# EAGLE library part HEADER1X6 (library MyLibrary)
6-pin Header (1*6) 0.5mm Pitch Connectors For FPC/FFC
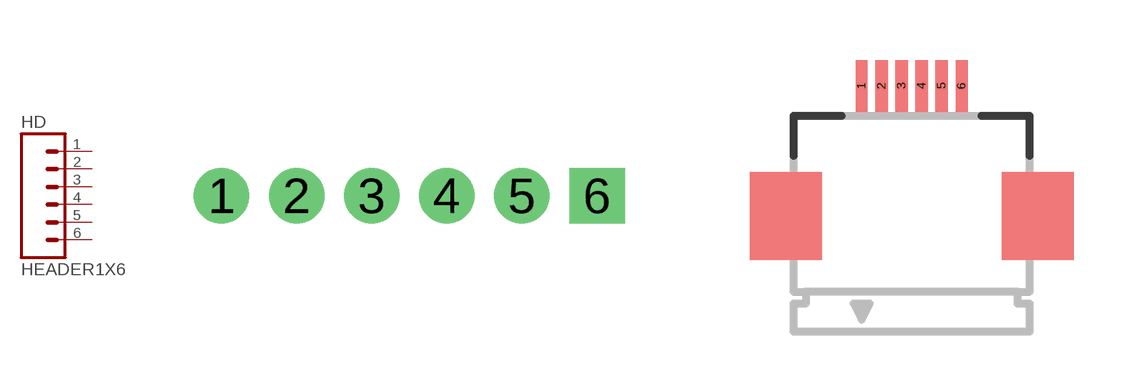
[diagram p5: symbol with the pads of DIP1X6; footprints DIP1X6, FPC0.5-6]

Designator prefix HD

## HEADER1X6  [DIP1X6]
1  1  pas
2  2  pas
3  3  pas
4  4  pas
5  5  pas
6  6  pas

## HEADER1X6-FPC0.5  [FPC0.5-6]
Pads as for DIP1X6

## HEADER1X6-FPC0.5-DRAWER  [FPC0.5-6-DRAWER]
Pads as for DIP1X6

## Footprint DIP1X6 (pad centres in mm)
6-pin Header (1x6)
drill 1.016 pad 1.88: 1 -6.35,0; 2 -3.81,0; 3 -1.27,0; 4 1.27,0; 5 3.81,0
drill 1.016 pad 1.88 square: 6 6.35,0

## Footprint FPC0.5-6 (pad centres in mm)
0.5mm Pitch Connectors For FPC/FFC Source: Data sheet <http://www.hirose.co.jp/cataloge_hp/e58605370.pdf>
smd 0.3 x 1.3: 1 -1.25,3.25; 2 -0.75,3.25; 3 -0.25,3.25; 4 0.25,3.25; 5 0.75,3.25; 6 1.25,3.25

## Footprint FPC0.5-6-DRAWER (pad centres in mm)
0.5mm Pitch Connectors For FPC/FFC
smd 0.3 x 1.3: 1 -1.25,3.25; 2 -0.75,3.25; 3 -0.25,3.25; 4 0.25,3.25; 5 0.75,3.25; 6 1.25,3.25
smd 1.8 x 2.2: SS1 -3.175,0.953; SS2 3.175,0.953